# EAGLE library part NRF24L01+ (library fab)
nRF24L01+ 2.4GHz Wireless Transceiver module
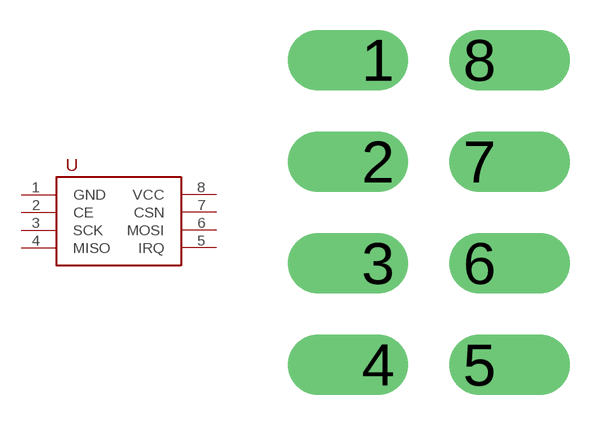
[diagram p14: symbol with the pads of 2X04_THRU; footprint 2X04_THRU]

Designator prefix -

## NRF24L01+  [2X04_THRU]
1  GND
2  CE
3  SCK
4  MISO
5  IRQ
6  MOSI
7  CSN
8  VCC

## Footprint 2X04_THRU (pad centres in mm)
2x4 header. Meant for nRF24L01+, but could be used for any header or 2x4 part. Extra-wide pads for greater durability in soldering.
drill 1 offset: 1 -1.27,3.81; 2 -1.27,1.27; 3 -1.27,-1.27; 4 -1.27,-3.81; 5 1.27,-3.81; 6 1.27,-1.27; 7 1.27,1.27; 8 1.27,3.81